# Altium footprint library STMICRO_L7805CDT-TR.PcbLib: 1 footprints
Each footprint in its own frame and in the unit in brackets; x right, y up, seen from the top. Pads: shape width x height; smd on the part's side, far side on the other; paste and mask are expansions set on the pad; w line width, h text height; cw(c..) or ccw(c..) is an arc to the next point about the centre after c.
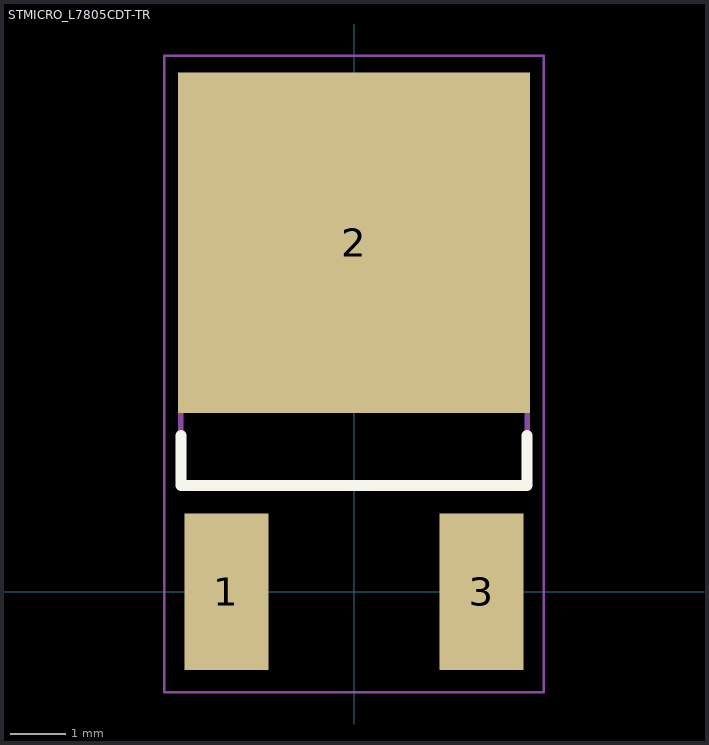
[diagram p0: the footprint, top view; thin cyan lines are the x and y axes]

## STMICRO_L7805CDT-TR [mm]
height 1.1
pads (3):
  rect 1.5x2.8 smd: 1(-2.286,0) 3(2.286,0)
  rect 6.3x6.1 smd: 2(0,6.25)
Top Overlay:
  lines w0.2: -3.1,2.8 -3.1,1.9 3.1,1.9 3.1,2.8
Mechanical 13:
  lines w0.1: -3.1,1.9 3.1,1.9 3.1,8.5 -3.1,8.5 -3.1,1.9
Mechanical 15:
  lines w0.05: -3.4,-1.8 -3.4,9.6 3.4,9.6 3.4,-1.8 -3.4,-1.8
  lines w0.1: -0.5,4 0.5,4 ; 0,3.5 0,4.5
3D body "STMICRO_L7805CDT-TR.stp": height 2.41, standoff -0.21, extent -3.3,-1.113 3.3,9.05